# EAGLE library part RPI-B-V2-LOGICAL (library raspberrypi)
Second revision of the Model 2 board including the P1 and P5 headers Mounting holes have been added.
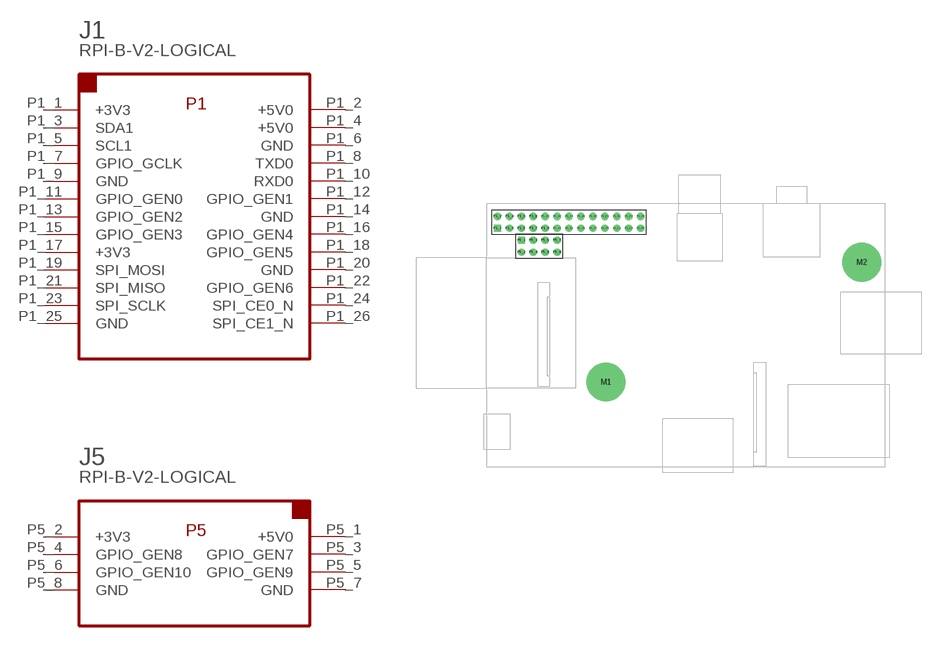
[diagram p2: symbol with the pads of RPI-B-V2-MOUNT; footprint RPI-B-V2-MOUNT]

Designator prefix J; gates 1=RPI-B-V2-P1 5=RPI-B-V2-P5

## RPI-B-V2-LOGICAL-MOUNT  [RPI-B-V2-MOUNT]
P1_1  1:+3V3  pwr
P1_2  1:+5V0  pwr
P1_3  1:SDA1
P1_4  1:+5V0  pwr
P1_5  1:SCL1
P1_6  1:GND  pwr
P1_7  1:GPIO_GCLK
P1_8  1:TXD0
P1_9  1:GND  pwr
P1_10  1:RXD0
P1_11  1:GPIO_GEN0
P1_12  1:GPIO_GEN1
P1_13  1:GPIO_GEN2
P1_14  1:GND  pwr
P1_15  1:GPIO_GEN3
P1_16  1:GPIO_GEN4
P1_17  1:+3V3  pwr
P1_18  1:GPIO_GEN5
P1_19  1:SPI_MOSI
P1_20  1:GND  pwr
P1_21  1:SPI_MISO
P1_22  1:GPIO_GEN6
P1_23  1:SPI_SCLK
P1_24  1:SPI_CE0_N
P1_25  1:GND  pwr
P1_26  1:SPI_CE1_N
P5_1  5:+5V0  pwr
P5_2  5:+3V3  pwr
P5_3  5:GPIO_GEN7
P5_4  5:GPIO_GEN8
P5_5  5:GPIO_GEN9
P5_6  5:GPIO_GEN10
P5_7  5:GND  pwr
P5_8  5:GND  pwr

## Footprint RPI-B-V2-MOUNT (pad centres in mm)
Raspberry Pi with mounting holes
drill 2.9 pad 8.255: M1 23.1,-32.72; M2 77.57,-7.21
drill 1.016 square: P1_1 0,0; P5_1 5.08,-2.54
drill 1.016: P1_2 0,2.54; P1_3 2.54,0; P1_4 2.54,2.54; P1_5 5.08,0; P1_6 5.08,2.54; P1_7 7.62,0; P1_8 7.62,2.54; P1_9 10.16,0; P1_10 10.16,2.54; P1_11 12.7,0; P1_12 12.7,2.54; P1_13 15.24,0; P1_14 15.24,2.54; P1_15 17.78,0; P1_16 17.78,2.54; P1_17 20.32,0; P1_18 20.32,2.54; P1_19 22.86,0; P1_20 22.86,2.54; P1_21 25.4,0; P1_22 25.4,2.54; P1_23 27.94,0; P1_24 27.94,2.54; P1_25 30.48,0; P1_26 30.48,2.54; P5_2 5.08,-5.08; P5_3 7.62,-2.54; P5_4 7.62,-5.08; P5_5 10.16,-2.54; P5_6 10.16,-5.08; P5_7 12.7,-2.54; P5_8 12.7,-5.08